# EAGLE library part CY8C4XXX-40 (library PatternAgents-Cypress)
Cypress PSoC® 4 - Programmable System on Chip, Cortex-M0 Based http://www.cypress.com/?mpn=CY8C4245LXI-483 LBR Source: http://www.patternagents.com THIS SOFTWARE IS PROVIDED BY THE CONTRIBUTORS "AS IS" AND WITHOUT ANY EXPRESS OR IMPLIED WARRANTIES, INCLUDING, BUT NOT LIMITED TO, THE IMPLIED WARRANTIES OF MERCHANTABILITY AND FITNESS FOR A PARTICULAR PURPOSE ARE DISCLAIMED. IN NO EVENT SHALL THE COPYRIGHT OWNER OR CONTRIBUTORS BE LIABLE FOR ANY DIRECT, INDIRECT, INCIDENTAL, SPECIAL, EXEMPLARY, OR CONSEQUENTIAL DAMAGES (INCLUDING, BUT NOT LIMITED TO, PROCUREMENT OF SUBSTITUTE GOODS OR SERVICES; LOSS OF USE, DATA, OR PROFITS; OR BUSINESS INTERRUPTION) HOWEVER CAUSED AND ON ANY THEORY OF LIABILITY, WHETHER IN CONTRACT, STRICT LIABILITY, OR TORT (INCLUDING NEGLIGENCE OR OTHERWISE) ARISING IN ANY WAY OUT OF THE USE OF THIS SOFTWARE, EVEN IF ADVISED OF THE POSSIBILITY OF SUCH DAMAGE.
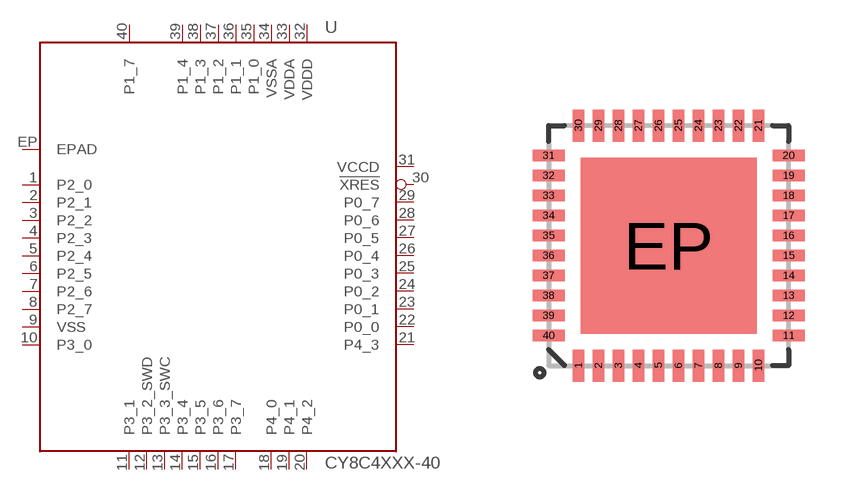
[diagram p39: symbol with the pads of QFN-40; footprint QFN-40]

Designator prefix U

## CY8C4XXX-40  [QFN-40]
1  P2_0
2  P2_1
3  P2_2  pwr
4  P2_3
5  P2_4
6  P2_5
7  P2_6  pwr
8  P2_7
9  VSS
10  P3_0
11  P3_1
12  P3_2_SWD
13  P3_3_SWC
14  P3_4
15  P3_5
16  P3_6  pwr
17  P3_7
18  P4_0
19  P4_1
20  P4_2
21  P4_3
22  P0_0
23  P0_1
24  P0_2  in
25  P0_3
26  P0_4
27  P0_5
28  P0_6  pwr
29  P0_7
30  !XRES
31  VCCD
32  VDDD
33  VDDA
34  VSSA
35  P1_0
36  P1_1
37  P1_2  pwr
38  P1_3
39  P1_4
40  P1_7
EP  EPAD

## Footprint QFN-40 (pad centres in mm)
40-QFN from Cypress 4245 datasheet, with Sparkfun DFM
smd 0.285 x 0.8: 1 -2.25,-3; 2 -1.75,-3; 3 -1.25,-3; 4 -0.75,-3; 5 -0.25,-3; 6 0.25,-3; 7 0.75,-3; 8 1.25,-3; 9 1.75,-3; 10 2.25,-3; 21 2.25,3; 22 1.75,3; 23 1.25,3; 24 0.75,3; 25 0.25,3; 26 -0.25,3; 27 -0.75,3; 28 -1.25,3; 29 -1.75,3; 30 -2.25,3
smd 0.8 x 0.285: 11 3,-2.25; 12 3,-1.75; 13 3,-1.25; 14 3,-0.75; 15 3,-0.25; 16 3,0.25; 17 3,0.75; 18 3,1.25; 19 3,1.75; 20 3,2.25; 31 -3,2.25; 32 -3,1.75; 33 -3,1.25; 34 -3,0.75; 35 -3,0.25; 36 -3,-0.25; 37 -3,-0.75; 38 -3,-1.25; 39 -3,-1.75; 40 -3,-2.25
smd 4.4 x 4.4: EP 0,0